# Altium schematic symbol library CP2102.SchLib: 1 symbol
Pins are listed as number, name and electrical type; pins without a type are passive.

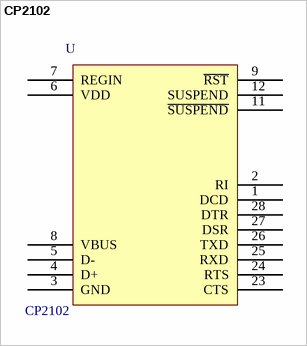
[diagram p0: symbol CP2102]

## CP2102
designator U  value CP2102  (hidden comment: *)
Manufacturer: Silicon Laboratories; Manufacturer Code: CP2102-GM; Unit Price: 4.55 €; Farnell Code: 9282130
footprint QFN-28
pins: 1 DCD, 2 RI, 3 GND, 4 D+, 5 D-, 6 VDD, 7 REGIN, 8 VBUS, 9 ~{RST}, 11 ~{SUSPEND}, 12 SUSPEND, 23 CTS, 24 RTS, 25 RXD, 26 TXD, 27 DSR, 28 DTR